# Altium schematic symbol library TMAG5328A1DQDBVR.SchLib: 1 symbol
Pins are listed as number, name and electrical type; pins without a type are passive.

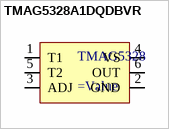
[diagram p0: symbol TMAG5328A1DQDBVR]

## TMAG5328A1DQDBVR
designator TMAG5328
footprint SOT23-6P95_280X145L45X60N (Small Outline Transistor, SOT-23 Type, 0.95 mm pitch; 6 pin, 2.90 mm L X 1.60 mm W X 1.45 mm H Body)
pins: 1 T1, 2 GND, 3 ADJ, 4 VS, 5 T2, 6 OUT